# Altium integrated library AS78L05RTR-E1.IntLib: 1 symbol
Pins are listed as number, name and electrical type; pins without a type are passive.

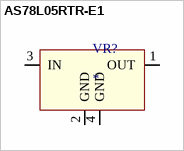
[diagram p0: symbol AS78L05RTR-E1]

## AS78L05RTR-E1
designator VR?
footprint SOT-89
pins: 1 OUT, 2 GND, 3 IN, 4 GND